# EAGLE library part SAMTEC_6 (library DSDEagleLibrary)
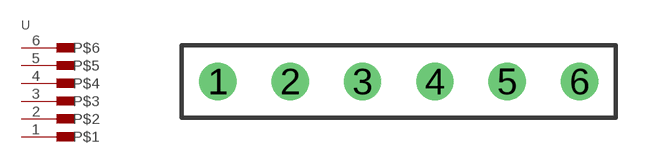
[diagram p14: symbol with the pads of SAMTEC_6PIN; footprint SAMTEC_6PIN]

Designator prefix U

## SAMTEC_6  [SAMTEC_6PIN]
1  P$1
2  P$2
3  P$3
4  P$4
5  P$5
6  P$6

## Footprint SAMTEC_6PIN (pad centres in mm)
drill 0.8: 1 0,0; 2 2.54,0; 3 5.08,0; 4 7.62,0; 5 10.16,0; 6 12.7,0